# Altium footprint library hdmiConnector-typeA.PcbLib: 1 footprints
Each footprint in its own frame and in the unit in brackets; x right, y up, seen from the top. Pads: shape width x height; smd on the part's side, far side on the other; paste and mask are expansions set on the pad; w line width, h text height; cw(c..) or ccw(c..) is an arc to the next point about the centre after c.
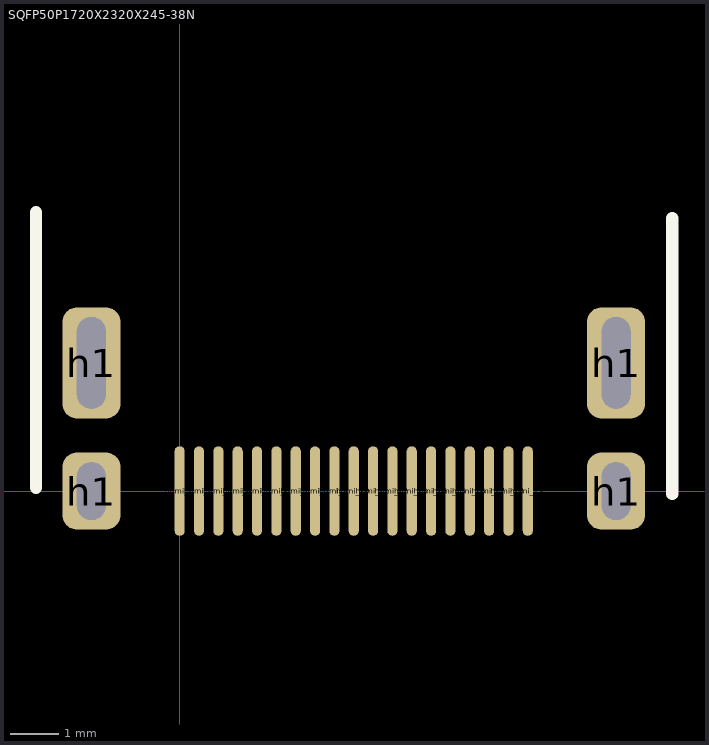
[diagram p0: the footprint, top view; thin cyan lines are the x and y axes]

## SQFP50P1720X2320X245-38N [mm] "SQFP, 38-Leads, Body 14.00x14.00mm, Pitch 0.50mm, IPC Medium Density"
height 2.45
pads (23):
  rrect50% 1.2x1.6 hole 0.6 slot 1.2 at 90 deg: h1(-1.825,0) h1(9.025,0)
  rrect50% 1.2x2.3 hole 0.6 slot 1.9 at 90 deg: h1(-1.825,2.65) h1(9.025,2.65)
  oval 0.21x1.85 smd mask+0.08: hdmi_1(0,0) hdmi_2(0.4,0) hdmi_3(0.8,0) hdmi_4(1.2,0) hdmi_5(1.6,0) hdmi_6(2,0) hdmi_7(2.4,0) hdmi_8(2.8,0) hdmi_9(3.2,0) hdmi_10(3.6,0) hdmi_11(4,0) hdmi_12(4.4,0) hdmi_13(4.8,0) hdmi_14(5.2,0) hdmi_15(5.6,0) hdmi_16(6,0) hdmi_17(6.4,0) hdmi_18(6.8,0) hdmi_19(7.2,0)
Top Overlay:
  lines w0.254: -2.972,0.066 -2.972,5.766 ; 10.185,-0.061 10.185,5.639